# Altium footprint library Regulateur de Tension LM2596 - Footprint.PcbLib: 1 footprints
Each footprint in its own frame and in the unit in brackets; x right, y up, seen from the top. Pads: shape width x height; smd on the part's side, far side on the other; paste and mask are expansions set on the pad; w line width, h text height; cw(c..) or ccw(c..) is an arc to the next point about the centre after c.
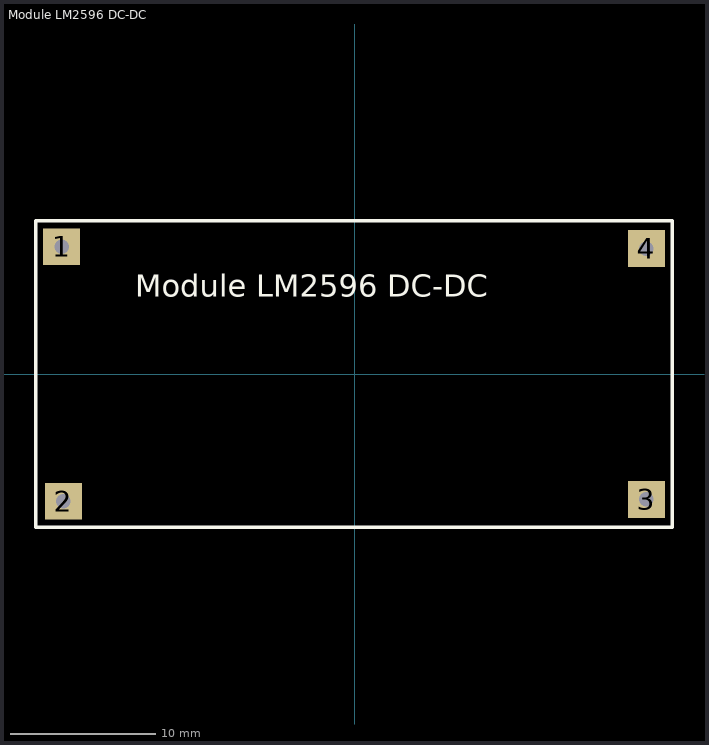
[diagram p0: the footprint, top view; thin cyan lines are the x and y axes]

## Module LM2596 DC-DC [mil]
pads (4):
  rect 100x100 hole 39.37: 1(-795,345) 2(-790,-345) 3(790,-340) 4(790,340)
Bottom Layer:
  text "Vin" at -565,310 h60
  text "GND" at -555,-375 h60
  text "GND" at 710,-370 h60
  text "Vout" at 725,305 h60
Top Overlay:
  lines w10: -865,-415 -865,415 860,415 860,-415 -865,-415
  text "Module LM2596 DC-DC" at -595,210 h60